# Altium schematic symbol library TMC4671.Schlib: 1 symbol
Pins are listed as number, name and electrical type; pins without a type are passive.

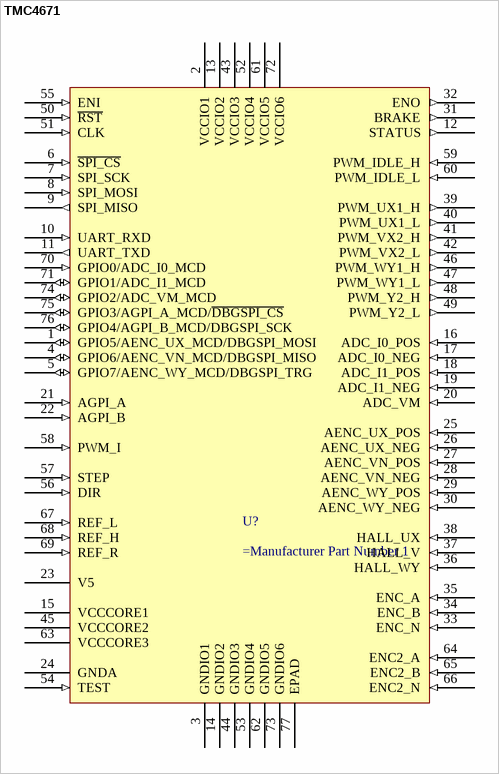
[diagram p0: symbol TMC4671]

## TMC4671
designator U?
Motor Driver, -40 To 125Deg C Rohs Compliant: Yes
footprint QFN40P1050X650X90_HS-77N (QFN, 76-Leads, Body 10,50x6,50mm, Pitch 0,40mm, Thermal Pad 9,00x5,00mm, IPC Medium Density)
pins: 1 GPIO5/AENC_UX_MCD/DBGSPI_MOSI (io), 2 VCCIO1 (power), 3 GNDIO1 (power), 4 GPIO6/AENC_VN_MCD/DBGSPI_MISO (io), 5 GPIO7/AENC_WY_MCD/DBGSPI_TRG (io), 6 ~{SPI_CS} (in), 7 SPI_SCK (in), 8 SPI_MOSI (in), 9 SPI_MISO (out), 10 UART_RXD (in), 11 UART_TXD (out), 12 STATUS (out), 13 VCCIO2 (power), 14 GNDIO2 (power), 15 VCCCORE1 (power), 16 ADC_I0_POS (in), 17 ADC_I0_NEG (in), 18 ADC_I1_POS (in), 19 ADC_I1_NEG (in), 20 ADC_VM (in), 21 AGPI_A (in), 22 AGPI_B (in), 23 V5 (power), 24 GNDA (power), 25 AENC_UX_POS (in), 26 AENC_UX_NEG (in), 27 AENC_VN_POS (in), 28 AENC_VN_NEG (in), 29 AENC_WY_POS (in), 30 AENC_WY_NEG (in), 31 BRAKE (out), 32 ENO (out), 33 ENC_N (in), 34 ENC_B (in), 35 ENC_A (in), 36 HALL_WY (in), 37 HALL_V (in), 38 HALL_UX (in), 39 PWM_UX1_H (out), 40 PWM_UX1_L (out), 41 PWM_VX2_H (out), 42 PWM_VX2_L (out), 43 VCCIO3 (power), 44 GNDIO3 (power), 45 VCCCORE2 (power), 46 PWM_WY1_H (out), 47 PWM_WY1_L (out), 48 PWM_Y2_H (out), 49 PWM_Y2_L (out), 50 ~{RST} (in), 51 CLK (in), 52 VCCIO4 (power), 53 GNDIO4 (power), 54 TEST (in), 55 ENI (in), 56 DIR (in), 57 STEP (in), 58 PWM_I (in), 59 PWM_IDLE_H (in), 60 PWM_IDLE_L (in), 61 VCCIO5 (power), 62 GNDIO5 (power), 63 VCCCORE3 (power), 64 ENC2_A (in), 65 ENC2_B (in), 66 ENC2_N (in), 67 REF_L (in), 68 REF_H (in), 69 REF_R (in), 70 GPIO0/ADC_I0_MCD (in), 71 GPIO1/ADC_I1_MCD (io), 72 VCCIO6 (power), 73 GNDIO6 (power), 74 GPIO2/ADC_VM_MCD (io), 75 GPIO3/AGPI_A_MCD/~{DBGSPI_CS} (io), 76 GPIO4/AGPI_B_MCD/DBGSPI_SCK (io), 77 EPAD